# EAGLE library part TPS54332 (library pixhawk2)
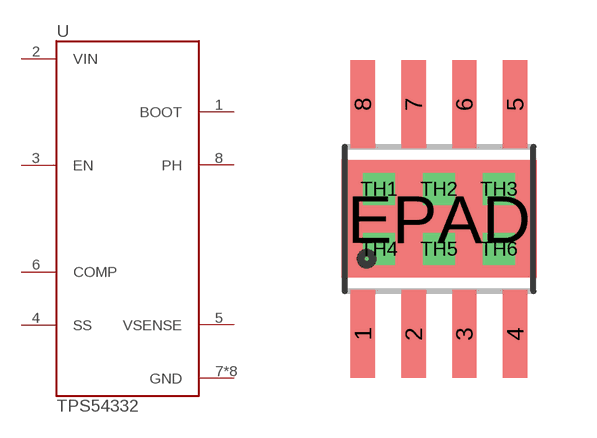
[diagram p88: symbol with the pads of SO08-DDA-EPAD; footprint SO08-DDA-EPAD]

Designator prefix -

## TPS54332  [SO08-DDA-EPAD]
1  BOOT
2  VIN
3  EN
4  SS
5  VSENSE
6  COMP
7  GND
8  PH
EPAD  GND
TH1  GND
TH2  GND
TH3  GND
TH4  GND
TH5  GND
TH6  GND

## Footprint SO08-DDA-EPAD (pad centres in mm)
smd 0.61 x 2.21: 1 -1.905,-2.875; 2 -0.635,-2.875; 3 0.635,-2.875; 4 1.905,-2.875; 5 1.905,2.875; 6 0.635,2.875; 7 -0.635,2.875; 8 -1.905,2.875
smd 4.89 x 2.94: EPAD 0,0
drill 0.3 square: TH1 -1.5,0.75; TH2 0,0.75; TH3 1.5,0.75; TH4 -1.5,-0.75; TH5 0,-0.75; TH6 1.5,-0.75